# Altium schematic symbol library 4306R-101-102LF.SchLib: 2 symbols
Pins are listed as number, name and electrical type; pins without a type are passive.

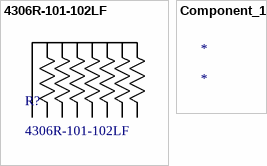
[diagram p0: symbols 4306R-101-102LF to Component_1]

## 4306R-101-102LF
designator R?
No Description Available; Mfr_Name: Bourns Electronics; Copyright: Copyright (C) 2022 Ultra Librarian. All rights reserved.; Manufacturer_Part_Number: 4306R-101-102LF; Digi-Key_Part_Number_1: 4306R-1-102LF-ND; RefDes: RefDes; Type: DEV
footprint BO_4306R
pins: 1, 2, 3, 4, 5, 6, ?1, ?2

## Component_1
designator *